# EAGLE library part 74LVC257AD,118 (library SamacSys_Parts)
74LVC257A - Quad 2-input multiplexer with 5 V tolerant inputs/outputs; 3-state@en-us Source: Datasheet <https://assets.nexperia.com/documents/data-sheet/74LVC257A.pdf>
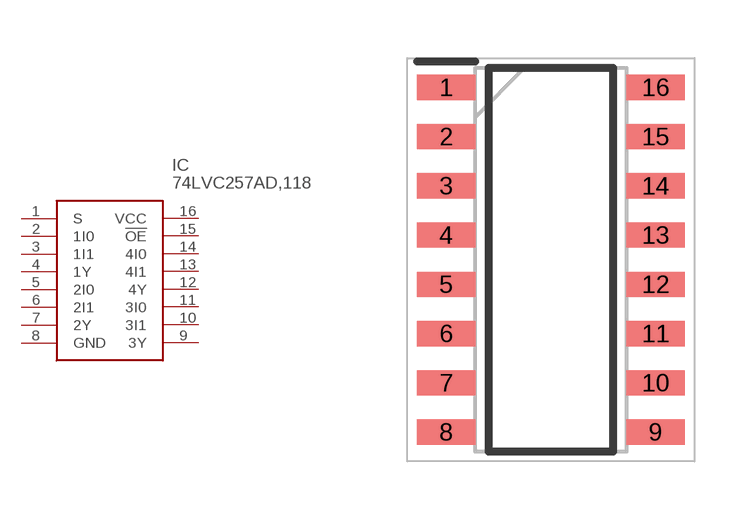
[diagram p71: symbol with the pads of SOIC127P600X175-16N; footprint SOIC127P600X175-16N]

Designator prefix IC

## 74LVC257AD,118 (DESCRIPTION: 74LVC257A - Quad 2-input multiplexer with 5 V tolerant inputs/outputs; 3-state@en-us; HEIGHT: 1.75mm; MANUFACTURER_NAME: Nexperia; MANUFACTURER_PART_NUMBER: 74LVC257AD,118; MOUSER_PART_NUMBER: 771-LVC257AD118; MOUSER_PRICE-STOCK: https://www.mouser.co.uk/ProductDetail/Nexperia/74LVC257AD118?qs=me8TqzrmIYUr2biQu7Ru%252Bw%3D%3D)  [SOIC127P600X175-16N]
1  S
2  1I0
3  1I1
4  1Y
5  2I0
6  2I1
7  2Y
8  GND
9  3Y
10  3I1
11  3I0
12  4Y
13  4I1
14  4I0
15  !OE
16  VCC

## Footprint SOIC127P600X175-16N (pad centres in mm)
NSOIC16-1
smd 1.5 x 0.65: 1 -2.7,4.445; 2 -2.7,3.175; 3 -2.7,1.905; 4 -2.7,0.635; 5 -2.7,-0.635; 6 -2.7,-1.905; 7 -2.7,-3.175; 8 -2.7,-4.445; 9 2.7,-4.445; 10 2.7,-3.175; 11 2.7,-1.905; 12 2.7,-0.635; 13 2.7,0.635; 14 2.7,1.905; 15 2.7,3.175; 16 2.7,4.445